# Altium schematic symbol library BUTTON-4P.SchLib: 1 symbol
Pins are listed as number, name and electrical type; pins without a type are passive.

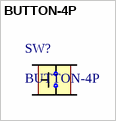
[diagram p0: symbol BUTTON-4P]

## BUTTON-4P
designator SW?
pins: 1, 2, 3, 4